# Altium footprint library HT3.96.PcbLib: 56 footprints (part 4 of 4)
Each footprint in its own frame and in the unit in brackets; x right, y up, seen from the top. Pads: shape width x height; smd on the part's side, far side on the other; paste and mask are expansions set on the pad; w line width, h text height; cw(c..) or ccw(c..) is an arc to the next point about the centre after c.
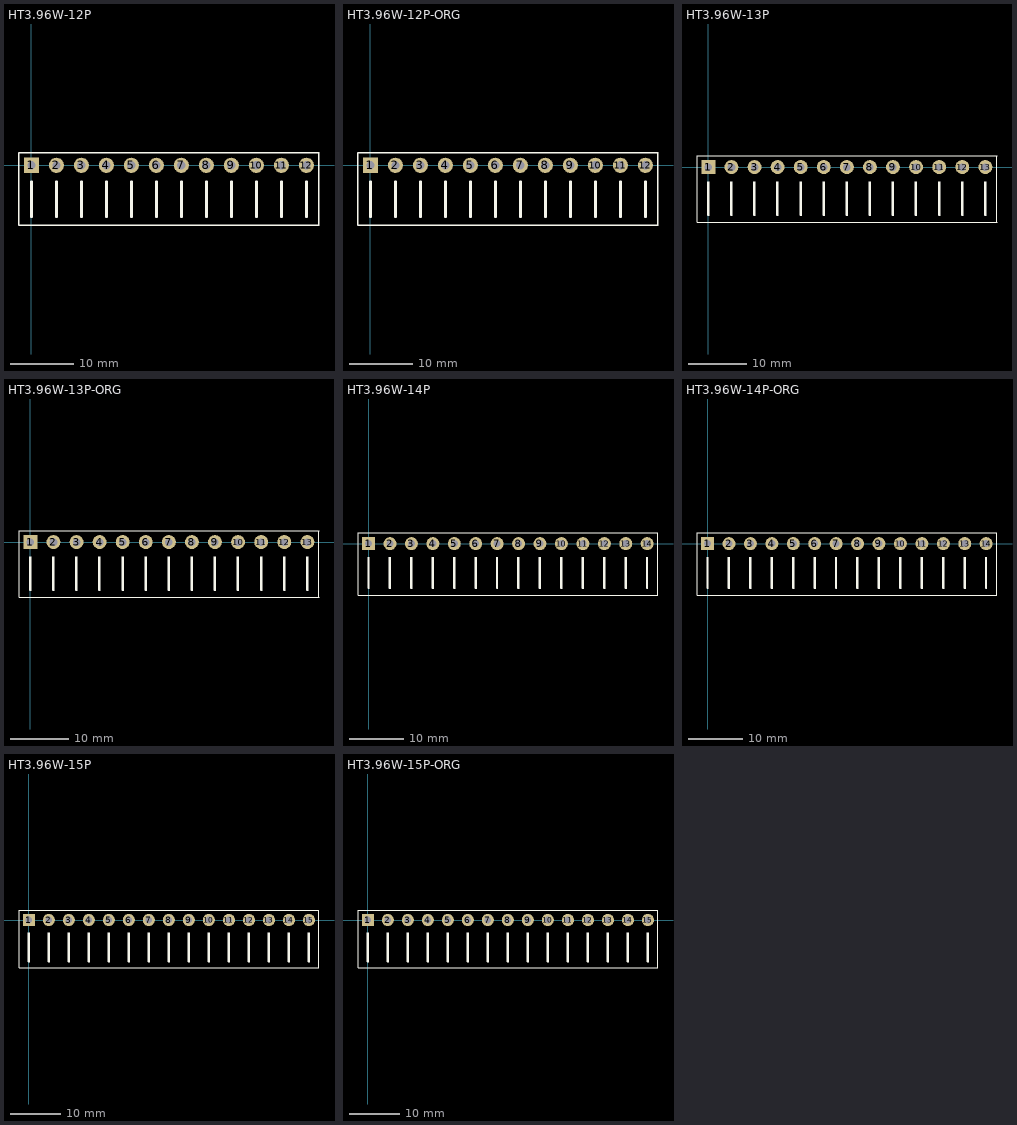
[diagram p3: the footprints below, top view; thin cyan lines are the x and y axes]

## HT3.96W-12P [mm]
pads (12):
  rect 2.4x2.4 hole 1.3: 1(0,0)
  round 2.4 hole 1.3: 2(3.96,0) 3(7.92,0) 4(11.88,0) 5(15.84,0) 6(19.8,0) 7(23.76,0) 8(27.72,0) 9(31.68,0) 10(35.64,0) 11(39.62,0) 12(43.58,0)
Top Overlay:
  lines w0.203: 0.02,-8.255 0.02,-2.54 ; 3.98,-8.255 3.98,-2.54 ; 7.94,-8.255 7.94,-2.54 ; 11.9,-8.255 11.9,-2.54 ; 15.86,-8.255 15.86,-2.54 ; 19.82,-8.255 19.82,-2.54 ; 23.78,-8.255 23.78,-2.54 ; 27.74,-8.255 27.74,-2.54 ; 31.7,-8.255 31.7,-2.54 ; 35.66,-8.255 35.66,-2.54 ; 37.64,-9.5 33.68,-9.5 29.72,-9.5 25.76,-9.5 21.8,-9.5 17.84,-9.5 13.88,-9.5 9.92,-9.5 5.96,-9.5 2,-9.5 -1.96,-9.5 -1.96,1.98 2,1.98 5.96,1.98 9.92,1.98 13.88,1.98 17.84,1.98 21.8,1.98 25.76,1.98 29.72,1.98 33.68,1.98 37.64,1.98 ; 37.66,-9.5 41.62,-9.5 45.58,-9.5 45.58,1.98 41.62,1.98 37.66,1.98 ; 39.64,-8.255 39.64,-2.54 ; 43.6,-8.255 43.6,-2.54 ; -0.107,-8.255 0.147,-8.255 0.147,-2.54 -0.107,-2.54 -0.107,-8.255 ; 3.853,-8.255 3.853,-2.54 4.107,-2.54 4.107,-8.255 3.853,-8.255 ; 7.813,-8.255 7.813,-2.54 8.067,-2.54 8.067,-8.255 7.813,-8.255 ; 11.773,-8.255 11.773,-2.54 12.027,-2.54 12.027,-8.255 11.773,-8.255 ; 15.733,-8.255 15.733,-2.54 15.987,-2.54 15.987,-8.255 15.733,-8.255 ; 19.693,-8.255 19.693,-2.54 19.947,-2.54 19.947,-8.255 19.693,-8.255 ; 23.653,-8.255 23.653,-2.54 23.907,-2.54 23.907,-8.255 23.653,-8.255 ; 27.613,-8.255 27.613,-2.54 27.867,-2.54 27.867,-8.255 27.613,-8.255 ; 31.573,-8.255 31.573,-2.54 31.827,-2.54 31.827,-8.255 31.573,-8.255 ; 35.533,-8.255 35.787,-8.255 35.787,-2.54 35.533,-2.54 35.533,-8.255 ; 39.513,-8.255 39.513,-2.54 39.767,-2.54 39.767,-8.255 39.513,-8.255 ; 43.473,-8.255 43.727,-8.255 43.727,-2.54 43.473,-2.54 43.473,-8.255
3D body "HT3.96-WI.STEP": height 7.45, standoff -3.2, extent 37.568,-9.492 41.568,0.508
3D body "HT3.96-WI.STEP": height 7.45, standoff -3.2, extent 33.608,-9.492 37.608,0.508
3D body "HT3.96-WI.STEP": height 7.45, standoff -3.2, extent 41.528,-9.492 45.528,0.508
3D body "HT3.96-WI.STEP": height 7.45, standoff -3.2, extent 25.688,-9.492 29.688,0.508
3D body "HT3.96-WI.STEP": height 7.45, standoff -3.2, extent 21.728,-9.492 25.728,0.508
3D body "HT3.96-WI.STEP": height 7.45, standoff -3.2, extent 29.648,-9.492 33.648,0.508
3D body "HT3.96-WI.STEP": height 7.45, standoff -3.2, extent 13.808,-9.492 17.808,0.508
3D body "HT3.96-WI.STEP": height 7.45, standoff -3.2, extent 9.848,-9.492 13.848,0.508
3D body "HT3.96-WI.STEP": height 7.45, standoff -3.2, extent 17.768,-9.492 21.768,0.508
3D body "HT3.96-WI.STEP": height 7.45, standoff -3.2, extent 1.928,-9.492 5.928,0.508
3D body "HT3.96-WI.STEP": height 7.45, standoff -3.2, extent -2.032,-9.492 1.968,0.508
3D body "HT3.96-WI.STEP": height 7.45, standoff -3.2, extent 5.888,-9.492 9.888,0.508

## HT3.96W-12P-ORG [mm]
pads (12):
  rect 2.4x2.4 hole 1.3: 1(0,0)
  round 2.4 hole 1.3: 2(3.96,0) 3(7.92,0) 4(11.88,0) 5(15.84,0) 6(19.8,0) 7(23.76,0) 8(27.72,0) 9(31.68,0) 10(35.64,0) 11(39.62,0) 12(43.58,0)
Top Overlay:
  lines w0.203: 0.02,-8.255 0.02,-2.54 ; 3.98,-8.255 3.98,-2.54 ; 7.94,-8.255 7.94,-2.54 ; 11.9,-8.255 11.9,-2.54 ; 15.86,-8.255 15.86,-2.54 ; 19.82,-8.255 19.82,-2.54 ; 23.78,-8.255 23.78,-2.54 ; 27.74,-8.255 27.74,-2.54 ; 31.7,-8.255 31.7,-2.54 ; 35.66,-8.255 35.66,-2.54 ; 37.64,-9.5 33.68,-9.5 29.72,-9.5 25.76,-9.5 21.8,-9.5 17.84,-9.5 13.88,-9.5 9.92,-9.5 5.96,-9.5 2,-9.5 -1.96,-9.5 -1.96,1.98 2,1.98 5.96,1.98 9.92,1.98 13.88,1.98 17.84,1.98 21.8,1.98 25.76,1.98 29.72,1.98 33.68,1.98 37.64,1.98 ; 37.66,-9.5 41.62,-9.5 45.58,-9.5 45.58,1.98 41.62,1.98 37.66,1.98 ; 39.64,-8.255 39.64,-2.54 ; 43.6,-8.255 43.6,-2.54 ; -0.107,-8.255 0.147,-8.255 0.147,-2.54 -0.107,-2.54 -0.107,-8.255 ; 3.853,-8.255 3.853,-2.54 4.107,-2.54 4.107,-8.255 3.853,-8.255 ; 7.813,-8.255 7.813,-2.54 8.067,-2.54 8.067,-8.255 7.813,-8.255 ; 11.773,-8.255 11.773,-2.54 12.027,-2.54 12.027,-8.255 11.773,-8.255 ; 15.733,-8.255 15.733,-2.54 15.987,-2.54 15.987,-8.255 15.733,-8.255 ; 19.693,-8.255 19.693,-2.54 19.947,-2.54 19.947,-8.255 19.693,-8.255 ; 23.653,-8.255 23.653,-2.54 23.907,-2.54 23.907,-8.255 23.653,-8.255 ; 27.613,-8.255 27.613,-2.54 27.867,-2.54 27.867,-8.255 27.613,-8.255 ; 31.573,-8.255 31.573,-2.54 31.827,-2.54 31.827,-8.255 31.573,-8.255 ; 35.533,-8.255 35.787,-8.255 35.787,-2.54 35.533,-2.54 35.533,-8.255 ; 39.513,-8.255 39.513,-2.54 39.767,-2.54 39.767,-8.255 39.513,-8.255 ; 43.473,-8.255 43.727,-8.255 43.727,-2.54 43.473,-2.54 43.473,-8.255
3D body "HT3.96-WI-ORG.STEP": height 7.45, standoff -3.2, extent 33.642,-9.572 37.642,0.428
3D body "HT3.96-WI-ORG.STEP": height 7.45, standoff -3.2, extent 37.602,-9.572 41.602,0.428
3D body "HT3.96-WI-ORG.STEP": height 7.45, standoff -3.2, extent 41.562,-9.572 45.562,0.428
3D body "HT3.96-WI-ORG.STEP": height 7.45, standoff -3.2, extent 21.762,-9.572 25.762,0.428
3D body "HT3.96-WI-ORG.STEP": height 7.45, standoff -3.2, extent 25.722,-9.572 29.722,0.428
3D body "HT3.96-WI-ORG.STEP": height 7.45, standoff -3.2, extent 29.682,-9.572 33.682,0.428
3D body "HT3.96-WI-ORG.STEP": height 7.45, standoff -3.2, extent 9.882,-9.572 13.882,0.428
3D body "HT3.96-WI-ORG.STEP": height 7.45, standoff -3.2, extent 13.842,-9.572 17.842,0.428
3D body "HT3.96-WI-ORG.STEP": height 7.45, standoff -3.2, extent 17.802,-9.572 21.802,0.428
3D body "HT3.96-WI-ORG.STEP": height 7.45, standoff -3.2, extent 5.922,-9.572 9.922,0.428
3D body "HT3.96-WI-ORG.STEP": height 7.45, standoff -3.2, extent 1.962,-9.572 5.962,0.428
3D body "HT3.96-WI-ORG.STEP": height 7.45, standoff -3.2, extent -1.998,-9.572 2.002,0.428

## HT3.96W-13P [mm]
pads (13):
  rect 2.4x2.4 hole 1.3: 1(0,0)
  round 2.4 hole 1.3: 2(3.96,0) 3(7.92,0) 4(11.88,0) 5(15.84,0) 6(19.8,0) 7(23.76,0) 8(27.72,0) 9(31.68,0) 10(35.64,0) 11(39.62,0) 12(43.58,0) 13(47.54,0)
Top Overlay:
  lines w0.203: 0.02,-8.255 0.02,-2.54 ; 3.98,-8.255 3.98,-2.54 ; 7.94,-8.255 7.94,-2.54 ; 11.9,-8.255 11.9,-2.54 ; 15.86,-8.255 15.86,-2.54 ; 19.82,-8.255 19.82,-2.54 ; 23.78,-8.255 23.78,-2.54 ; 27.74,-8.255 27.74,-2.54 ; 31.7,-8.255 31.7,-2.54 ; 35.66,-8.255 35.66,-2.54 ; 37.64,-9.5 33.68,-9.5 29.72,-9.5 25.76,-9.5 21.8,-9.5 17.84,-9.5 13.88,-9.5 9.92,-9.5 5.96,-9.5 2,-9.5 -1.96,-9.5 -1.96,1.98 2,1.98 5.96,1.98 9.92,1.98 13.88,1.98 17.84,1.98 21.8,1.98 25.76,1.98 29.72,1.98 33.68,1.98 37.64,1.98 ; 37.66,-9.5 41.62,-9.5 45.58,-9.5 49.54,-9.5 49.54,1.98 45.58,1.98 41.62,1.98 37.66,1.98 ; 39.64,-8.255 39.64,-2.54 ; 43.6,-8.255 43.6,-2.54 ; 47.56,-8.255 47.56,-2.54 ; -0.107,-8.255 -0.107,-2.54 0.147,-2.54 0.147,-8.255 -0.107,-8.255 ; 3.853,-8.255 4.107,-8.255 4.107,-2.54 3.853,-2.54 3.853,-8.255 ; 7.813,-8.255 8.067,-8.255 8.067,-2.54 7.813,-2.54 7.813,-8.255 ; 11.773,-8.255 12.027,-8.255 12.027,-2.54 11.773,-2.54 11.773,-8.255 ; 15.733,-8.255 15.987,-8.255 15.987,-2.54 15.733,-2.54 15.733,-8.255 ; 19.693,-8.255 19.947,-8.255 19.947,-2.54 19.693,-2.54 19.693,-8.255 ; 23.653,-8.255 23.907,-8.255 23.907,-2.54 23.653,-2.54 23.653,-8.255 ; 27.613,-8.255 27.867,-8.255 27.867,-2.54 27.613,-2.54 27.613,-8.255 ; 31.573,-8.255 31.827,-8.255 31.827,-2.54 31.573,-2.54 31.573,-8.255 ; 35.533,-8.255 35.533,-2.54 35.787,-2.54 35.787,-8.255 35.533,-8.255 ; 39.513,-8.255 39.767,-8.255 39.767,-2.54 39.513,-2.54 39.513,-8.255 ; 43.473,-8.255 43.473,-2.54 43.727,-2.54 43.727,-8.255 43.473,-8.255 ; 47.433,-8.255 47.687,-8.255 47.687,-2.54 47.433,-2.54 47.433,-8.255
3D body "HT3.96-WI.STEP": height 7.45, standoff -3.2, extent 45.508,-9.492 49.508,0.508
3D body "HT3.96-WI.STEP": height 7.45, standoff -3.2, extent 37.568,-9.492 41.568,0.508
3D body "HT3.96-WI.STEP": height 7.45, standoff -3.2, extent 33.608,-9.492 37.608,0.508
3D body "HT3.96-WI.STEP": height 7.45, standoff -3.2, extent 41.528,-9.492 45.528,0.508
3D body "HT3.96-WI.STEP": height 7.45, standoff -3.2, extent 25.688,-9.492 29.688,0.508
3D body "HT3.96-WI.STEP": height 7.45, standoff -3.2, extent 21.728,-9.492 25.728,0.508
3D body "HT3.96-WI.STEP": height 7.45, standoff -3.2, extent 29.648,-9.492 33.648,0.508
3D body "HT3.96-WI.STEP": height 7.45, standoff -3.2, extent 13.808,-9.492 17.808,0.508
3D body "HT3.96-WI.STEP": height 7.45, standoff -3.2, extent 9.848,-9.492 13.848,0.508
3D body "HT3.96-WI.STEP": height 7.45, standoff -3.2, extent 17.768,-9.492 21.768,0.508
3D body "HT3.96-WI.STEP": height 7.45, standoff -3.2, extent 1.928,-9.492 5.928,0.508
3D body "HT3.96-WI.STEP": height 7.45, standoff -3.2, extent -2.032,-9.492 1.968,0.508
3D body "HT3.96-WI.STEP": height 7.45, standoff -3.2, extent 5.888,-9.492 9.888,0.508

## HT3.96W-13P-ORG [mm] "HT3.96卧插端子"
pads (13):
  rect 2.4x2.4 hole 1.3: 1(0,0)
  round 2.4 hole 1.3: 2(3.96,0) 3(7.92,0) 4(11.88,0) 5(15.84,0) 6(19.8,0) 7(23.76,0) 8(27.72,0) 9(31.68,0) 10(35.64,0) 11(39.62,0) 12(43.58,0) 13(47.54,0)
Top Overlay:
  lines w0.203: 0.02,-8.255 0.02,-2.54 ; 3.98,-8.255 3.98,-2.54 ; 7.94,-8.255 7.94,-2.54 ; 11.9,-8.255 11.9,-2.54 ; 15.86,-8.255 15.86,-2.54 ; 19.82,-8.255 19.82,-2.54 ; 23.78,-8.255 23.78,-2.54 ; 27.74,-8.255 27.74,-2.54 ; 31.7,-8.255 31.7,-2.54 ; 35.66,-8.255 35.66,-2.54 ; 37.64,-9.5 33.68,-9.5 29.72,-9.5 25.76,-9.5 21.8,-9.5 17.84,-9.5 13.88,-9.5 9.92,-9.5 5.96,-9.5 2,-9.5 -1.96,-9.5 -1.96,1.98 2,1.98 5.96,1.98 9.92,1.98 13.88,1.98 17.84,1.98 21.8,1.98 25.76,1.98 29.72,1.98 33.68,1.98 37.64,1.98 ; 37.66,-9.5 41.62,-9.5 45.58,-9.5 49.54,-9.5 49.54,1.98 45.58,1.98 41.62,1.98 37.66,1.98 ; 39.64,-8.255 39.64,-2.54 ; 43.6,-8.255 43.6,-2.54 ; 47.56,-8.255 47.56,-2.54 ; -0.107,-8.255 0.147,-8.255 0.147,-2.54 -0.107,-2.54 -0.107,-8.255 ; 3.853,-8.255 3.853,-2.54 4.107,-2.54 4.107,-8.255 3.853,-8.255 ; 7.813,-8.255 7.813,-2.54 8.067,-2.54 8.067,-8.255 7.813,-8.255 ; 11.773,-8.255 11.773,-2.54 12.027,-2.54 12.027,-8.255 11.773,-8.255 ; 15.733,-8.255 15.733,-2.54 15.987,-2.54 15.987,-8.255 15.733,-8.255 ; 19.693,-8.255 19.693,-2.54 19.947,-2.54 19.947,-8.255 19.693,-8.255 ; 23.653,-8.255 23.653,-2.54 23.907,-2.54 23.907,-8.255 23.653,-8.255 ; 27.613,-8.255 27.613,-2.54 27.867,-2.54 27.867,-8.255 27.613,-8.255 ; 31.573,-8.255 31.573,-2.54 31.827,-2.54 31.827,-8.255 31.573,-8.255 ; 35.533,-8.255 35.787,-8.255 35.787,-2.54 35.533,-2.54 35.533,-8.255 ; 39.513,-8.255 39.513,-2.54 39.767,-2.54 39.767,-8.255 39.513,-8.255 ; 43.473,-8.255 43.727,-8.255 43.727,-2.54 43.473,-2.54 43.473,-8.255 ; 47.433,-8.255 47.433,-2.54 47.687,-2.54 47.687,-8.255 47.433,-8.255
3D body "HT3.96-WI-ORG.STEP": height 7.45, standoff -3.2, extent 45.542,-9.572 49.542,0.428
3D body "HT3.96-WI-ORG.STEP": height 7.45, standoff -3.2, extent 33.642,-9.572 37.642,0.428
3D body "HT3.96-WI-ORG.STEP": height 7.45, standoff -3.2, extent 37.602,-9.572 41.602,0.428
3D body "HT3.96-WI-ORG.STEP": height 7.45, standoff -3.2, extent 41.562,-9.572 45.562,0.428
3D body "HT3.96-WI-ORG.STEP": height 7.45, standoff -3.2, extent 21.762,-9.572 25.762,0.428
3D body "HT3.96-WI-ORG.STEP": height 7.45, standoff -3.2, extent 25.722,-9.572 29.722,0.428
3D body "HT3.96-WI-ORG.STEP": height 7.45, standoff -3.2, extent 29.682,-9.572 33.682,0.428
3D body "HT3.96-WI-ORG.STEP": height 7.45, standoff -3.2, extent 9.882,-9.572 13.882,0.428
3D body "HT3.96-WI-ORG.STEP": height 7.45, standoff -3.2, extent 13.842,-9.572 17.842,0.428
3D body "HT3.96-WI-ORG.STEP": height 7.45, standoff -3.2, extent 17.802,-9.572 21.802,0.428
3D body "HT3.96-WI-ORG.STEP": height 7.45, standoff -3.2, extent 5.922,-9.572 9.922,0.428
3D body "HT3.96-WI-ORG.STEP": height 7.45, standoff -3.2, extent 1.962,-9.572 5.962,0.428
3D body "HT3.96-WI-ORG.STEP": height 7.45, standoff -3.2, extent -1.998,-9.572 2.002,0.428

## HT3.96W-14P [mm]
pads (14):
  rect 2.4x2.4 hole 1.3: 1(0,0)
  round 2.4 hole 1.3: 2(3.96,0) 3(7.92,0) 4(11.88,0) 5(15.84,0) 6(19.8,0) 7(23.76,0) 8(27.72,0) 9(31.68,0) 10(35.64,0) 11(39.62,0) 12(43.58,0) 13(47.54,0) 14(51.5,0)
Top Overlay:
  lines w0.203: 0.02,-8.255 0.02,-2.54 ; 3.98,-8.255 3.98,-2.54 ; 7.94,-8.255 7.94,-2.54 ; 11.9,-8.255 11.9,-2.54 ; 15.86,-8.255 15.86,-2.54 ; 19.82,-8.255 19.82,-2.54 ; 23.78,-8.255 23.78,-2.54 ; 27.74,-8.255 27.74,-2.54 ; 31.7,-8.255 31.7,-2.54 ; 35.66,-8.255 35.66,-2.54 ; 37.64,-9.5 33.68,-9.5 29.72,-9.5 25.76,-9.5 21.8,-9.5 17.84,-9.5 13.88,-9.5 9.92,-9.5 5.96,-9.5 2,-9.5 -1.96,-9.5 -1.96,1.98 2,1.98 5.96,1.98 9.92,1.98 13.88,1.98 17.84,1.98 21.8,1.98 25.76,1.98 29.72,1.98 33.68,1.98 37.64,1.98 ; 37.66,-9.5 41.62,-9.5 45.58,-9.5 49.54,-9.5 53.5,-9.5 53.5,1.98 49.54,1.98 45.58,1.98 41.62,1.98 37.66,1.98 ; 39.64,-8.255 39.64,-2.54 ; 43.6,-8.255 43.6,-2.54 ; 47.56,-8.255 47.56,-2.54 ; 51.52,-8.255 51.52,-2.54 ; -0.107,-8.255 -0.107,-2.54 0.147,-2.54 0.147,-8.255 -0.107,-8.255 ; 3.853,-8.255 4.107,-8.255 4.107,-2.54 3.853,-2.54 3.853,-8.255 ; 7.813,-8.255 8.067,-8.255 8.067,-2.54 7.813,-2.54 7.813,-8.255 ; 11.773,-8.255 12.027,-8.255 12.027,-2.54 11.773,-2.54 11.773,-8.255 ; 15.733,-8.255 15.987,-8.255 15.987,-2.54 15.733,-2.54 15.733,-8.255 ; 19.693,-8.255 19.947,-8.255 19.947,-2.54 19.693,-2.54 19.693,-8.255 ; 23.653,-8.255 23.907,-8.255 23.907,-2.54 23.653,-2.54 23.653,-8.255 ; 27.613,-8.255 27.867,-8.255 27.867,-2.54 27.613,-2.54 27.613,-8.255 ; 31.573,-8.255 31.827,-8.255 31.827,-2.54 31.573,-2.54 31.573,-8.255 ; 35.533,-8.255 35.533,-2.54 35.787,-2.54 35.787,-8.255 35.533,-8.255 ; 39.513,-8.255 39.767,-8.255 39.767,-2.54 39.513,-2.54 39.513,-8.255 ; 43.473,-8.255 43.473,-2.54 43.727,-2.54 43.727,-8.255 43.473,-8.255 ; 47.433,-8.255 47.687,-8.255 47.687,-2.54 47.433,-2.54 47.433,-8.255 ; 51.393,-8.255 51.393,-2.54 51.647,-2.54 51.647,-8.255 51.393,-8.255
3D body "HT3.96-WI.STEP": height 7.45, standoff -3.2, extent 49.468,-9.492 53.468,0.508
3D body "HT3.96-WI.STEP": height 7.45, standoff -3.2, extent 45.508,-9.492 49.508,0.508
3D body "HT3.96-WI.STEP": height 7.45, standoff -3.2, extent 37.568,-9.492 41.568,0.508
3D body "HT3.96-WI.STEP": height 7.45, standoff -3.2, extent 33.608,-9.492 37.608,0.508
3D body "HT3.96-WI.STEP": height 7.45, standoff -3.2, extent 41.528,-9.492 45.528,0.508
3D body "HT3.96-WI.STEP": height 7.45, standoff -3.2, extent 25.688,-9.492 29.688,0.508
3D body "HT3.96-WI.STEP": height 7.45, standoff -3.2, extent 21.728,-9.492 25.728,0.508
3D body "HT3.96-WI.STEP": height 7.45, standoff -3.2, extent 29.648,-9.492 33.648,0.508
3D body "HT3.96-WI.STEP": height 7.45, standoff -3.2, extent 13.808,-9.492 17.808,0.508
3D body "HT3.96-WI.STEP": height 7.45, standoff -3.2, extent 9.848,-9.492 13.848,0.508
3D body "HT3.96-WI.STEP": height 7.45, standoff -3.2, extent 17.768,-9.492 21.768,0.508
3D body "HT3.96-WI.STEP": height 7.45, standoff -3.2, extent 1.928,-9.492 5.928,0.508
3D body "HT3.96-WI.STEP": height 7.45, standoff -3.2, extent -2.032,-9.492 1.968,0.508
3D body "HT3.96-WI.STEP": height 7.45, standoff -3.2, extent 5.888,-9.492 9.888,0.508

## HT3.96W-14P-ORG [mm]
pads (14):
  rect 2.4x2.4 hole 1.3: 1(0,0)
  round 2.4 hole 1.3: 2(3.96,0) 3(7.92,0) 4(11.88,0) 5(15.84,0) 6(19.8,0) 7(23.76,0) 8(27.72,0) 9(31.68,0) 10(35.64,0) 11(39.62,0) 12(43.58,0) 13(47.54,0) 14(51.5,0)
Top Overlay:
  lines w0.203: 0.02,-8.255 0.02,-2.54 ; 3.98,-8.255 3.98,-2.54 ; 7.94,-8.255 7.94,-2.54 ; 11.9,-8.255 11.9,-2.54 ; 15.86,-8.255 15.86,-2.54 ; 19.82,-8.255 19.82,-2.54 ; 23.78,-8.255 23.78,-2.54 ; 27.74,-8.255 27.74,-2.54 ; 31.7,-8.255 31.7,-2.54 ; 35.66,-8.255 35.66,-2.54 ; 37.64,-9.5 33.68,-9.5 29.72,-9.5 25.76,-9.5 21.8,-9.5 17.84,-9.5 13.88,-9.5 9.92,-9.5 5.96,-9.5 2,-9.5 -1.96,-9.5 -1.96,1.98 2,1.98 5.96,1.98 9.92,1.98 13.88,1.98 17.84,1.98 21.8,1.98 25.76,1.98 29.72,1.98 33.68,1.98 37.64,1.98 ; 37.66,-9.5 41.62,-9.5 45.58,-9.5 49.54,-9.5 53.5,-9.5 53.5,1.98 49.54,1.98 45.58,1.98 41.62,1.98 37.66,1.98 ; 39.64,-8.255 39.64,-2.54 ; 43.6,-8.255 43.6,-2.54 ; 47.56,-8.255 47.56,-2.54 ; 51.52,-8.255 51.52,-2.54 ; -0.107,-8.255 0.147,-8.255 0.147,-2.54 -0.107,-2.54 -0.107,-8.255 ; 3.853,-8.255 3.853,-2.54 4.107,-2.54 4.107,-8.255 3.853,-8.255 ; 7.813,-8.255 7.813,-2.54 8.067,-2.54 8.067,-8.255 7.813,-8.255 ; 11.773,-8.255 11.773,-2.54 12.027,-2.54 12.027,-8.255 11.773,-8.255 ; 15.733,-8.255 15.733,-2.54 15.987,-2.54 15.987,-8.255 15.733,-8.255 ; 19.693,-8.255 19.693,-2.54 19.947,-2.54 19.947,-8.255 19.693,-8.255 ; 23.653,-8.255 23.653,-2.54 23.907,-2.54 23.907,-8.255 23.653,-8.255 ; 27.613,-8.255 27.613,-2.54 27.867,-2.54 27.867,-8.255 27.613,-8.255 ; 31.573,-8.255 31.573,-2.54 31.827,-2.54 31.827,-8.255 31.573,-8.255 ; 35.533,-8.255 35.787,-8.255 35.787,-2.54 35.533,-2.54 35.533,-8.255 ; 39.513,-8.255 39.513,-2.54 39.767,-2.54 39.767,-8.255 39.513,-8.255 ; 43.473,-8.255 43.727,-8.255 43.727,-2.54 43.473,-2.54 43.473,-8.255 ; 47.433,-8.255 47.433,-2.54 47.687,-2.54 47.687,-8.255 47.433,-8.255 ; 51.393,-8.255 51.647,-8.255 51.647,-2.54 51.393,-2.54 51.393,-8.255
3D body "HT3.96-WI-ORG.STEP": height 7.45, standoff -3.2, extent 45.542,-9.572 49.542,0.428
3D body "HT3.96-WI-ORG.STEP": height 7.45, standoff -3.2, extent 49.502,-9.572 53.502,0.428
3D body "HT3.96-WI-ORG.STEP": height 7.45, standoff -3.2, extent 33.642,-9.572 37.642,0.428
3D body "HT3.96-WI-ORG.STEP": height 7.45, standoff -3.2, extent 37.602,-9.572 41.602,0.428
3D body "HT3.96-WI-ORG.STEP": height 7.45, standoff -3.2, extent 41.562,-9.572 45.562,0.428
3D body "HT3.96-WI-ORG.STEP": height 7.45, standoff -3.2, extent 21.762,-9.572 25.762,0.428
3D body "HT3.96-WI-ORG.STEP": height 7.45, standoff -3.2, extent 25.722,-9.572 29.722,0.428
3D body "HT3.96-WI-ORG.STEP": height 7.45, standoff -3.2, extent 29.682,-9.572 33.682,0.428
3D body "HT3.96-WI-ORG.STEP": height 7.45, standoff -3.2, extent 9.882,-9.572 13.882,0.428
3D body "HT3.96-WI-ORG.STEP": height 7.45, standoff -3.2, extent 13.842,-9.572 17.842,0.428
3D body "HT3.96-WI-ORG.STEP": height 7.45, standoff -3.2, extent 17.802,-9.572 21.802,0.428
3D body "HT3.96-WI-ORG.STEP": height 7.45, standoff -3.2, extent 5.922,-9.572 9.922,0.428
3D body "HT3.96-WI-ORG.STEP": height 7.45, standoff -3.2, extent 1.962,-9.572 5.962,0.428
3D body "HT3.96-WI-ORG.STEP": height 7.45, standoff -3.2, extent -1.998,-9.572 2.002,0.428

## HT3.96W-15P [mm]
pads (15):
  rect 2.4x2.4 hole 1.3: 1(0,0)
  round 2.4 hole 1.3: 2(3.96,0) 3(7.92,0) 4(11.88,0) 5(15.84,0) 6(19.8,0) 7(23.76,0) 8(27.72,0) 9(31.68,0) 10(35.64,0) 11(39.62,0) 12(43.58,0) 13(47.54,0) 14(51.5,0) 15(55.46,0)
Top Overlay:
  lines w0.203: 0.02,-8.255 0.02,-2.54 ; 3.98,-8.255 3.98,-2.54 ; 7.94,-8.255 7.94,-2.54 ; 11.9,-8.255 11.9,-2.54 ; 15.86,-8.255 15.86,-2.54 ; 19.82,-8.255 19.82,-2.54 ; 23.78,-8.255 23.78,-2.54 ; 27.74,-8.255 27.74,-2.54 ; 31.7,-8.255 31.7,-2.54 ; 35.66,-8.255 35.66,-2.54 ; 37.64,-9.5 33.68,-9.5 29.72,-9.5 25.76,-9.5 21.8,-9.5 17.84,-9.5 13.88,-9.5 9.92,-9.5 5.96,-9.5 2,-9.5 -1.96,-9.5 -1.96,1.98 2,1.98 5.96,1.98 9.92,1.98 13.88,1.98 17.84,1.98 21.8,1.98 25.76,1.98 29.72,1.98 33.68,1.98 37.64,1.98 ; 37.66,-9.5 41.62,-9.5 45.58,-9.5 49.54,-9.5 53.5,-9.5 57.46,-9.5 57.46,1.98 53.5,1.98 49.54,1.98 45.58,1.98 41.62,1.98 37.66,1.98 ; 39.64,-8.255 39.64,-2.54 ; 43.6,-8.255 43.6,-2.54 ; 47.56,-8.255 47.56,-2.54 ; 51.52,-8.255 51.52,-2.54 ; 55.48,-8.255 55.48,-2.54 ; -0.107,-8.255 -0.107,-2.54 0.147,-2.54 0.147,-8.255 -0.107,-8.255 ; 3.853,-8.255 4.107,-8.255 4.107,-2.54 3.853,-2.54 3.853,-8.255 ; 7.813,-8.255 8.067,-8.255 8.067,-2.54 7.813,-2.54 7.813,-8.255 ; 11.773,-8.255 12.027,-8.255 12.027,-2.54 11.773,-2.54 11.773,-8.255 ; 15.733,-8.255 15.987,-8.255 15.987,-2.54 15.733,-2.54 15.733,-8.255 ; 19.693,-8.255 19.947,-8.255 19.947,-2.54 19.693,-2.54 19.693,-8.255 ; 23.653,-8.255 23.907,-8.255 23.907,-2.54 23.653,-2.54 23.653,-8.255 ; 27.613,-8.255 27.867,-8.255 27.867,-2.54 27.613,-2.54 27.613,-8.255 ; 31.573,-8.255 31.827,-8.255 31.827,-2.54 31.573,-2.54 31.573,-8.255 ; 35.533,-8.255 35.533,-2.54 35.787,-2.54 35.787,-8.255 35.533,-8.255 ; 39.513,-8.255 39.767,-8.255 39.767,-2.54 39.513,-2.54 39.513,-8.255 ; 43.473,-8.255 43.473,-2.54 43.727,-2.54 43.727,-8.255 43.473,-8.255 ; 47.433,-8.255 47.687,-8.255 47.687,-2.54 47.433,-2.54 47.433,-8.255 ; 51.393,-8.255 51.393,-2.54 51.647,-2.54 51.647,-8.255 51.393,-8.255 ; 55.353,-8.255 55.607,-8.255 55.607,-2.54 55.353,-2.54 55.353,-8.255
3D body "HT3.96-WI.STEP": height 7.45, standoff -3.2, extent 5.888,-9.492 9.888,0.508
3D body "HT3.96-WI.STEP": height 7.45, standoff -3.2, extent -2.032,-9.492 1.968,0.508
3D body "HT3.96-WI.STEP": height 7.45, standoff -3.2, extent 1.928,-9.492 5.928,0.508
3D body "HT3.96-WI.STEP": height 7.45, standoff -3.2, extent 17.768,-9.492 21.768,0.508
3D body "HT3.96-WI.STEP": height 7.45, standoff -3.2, extent 9.848,-9.492 13.848,0.508
3D body "HT3.96-WI.STEP": height 7.45, standoff -3.2, extent 13.808,-9.492 17.808,0.508
3D body "HT3.96-WI.STEP": height 7.45, standoff -3.2, extent 29.648,-9.492 33.648,0.508
3D body "HT3.96-WI.STEP": height 7.45, standoff -3.2, extent 21.728,-9.492 25.728,0.508
3D body "HT3.96-WI.STEP": height 7.45, standoff -3.2, extent 25.688,-9.492 29.688,0.508
3D body "HT3.96-WI.STEP": height 7.45, standoff -3.2, extent 41.528,-9.492 45.528,0.508
3D body "HT3.96-WI.STEP": height 7.45, standoff -3.2, extent 33.608,-9.492 37.608,0.508
3D body "HT3.96-WI.STEP": height 7.45, standoff -3.2, extent 37.568,-9.492 41.568,0.508
3D body "HT3.96-WI.STEP": height 7.45, standoff -3.2, extent 53.428,-9.492 57.428,0.508
3D body "HT3.96-WI.STEP": height 7.45, standoff -3.2, extent 45.508,-9.492 49.508,0.508
3D body "HT3.96-WI.STEP": height 7.45, standoff -3.2, extent 49.468,-9.492 53.468,0.508

## HT3.96W-15P-ORG [mm]
pads (15):
  rect 2.4x2.4 hole 1.3: 1(0,0)
  round 2.4 hole 1.3: 2(3.96,0) 3(7.92,0) 4(11.88,0) 5(15.84,0) 6(19.8,0) 7(23.76,0) 8(27.72,0) 9(31.68,0) 10(35.64,0) 11(39.62,0) 12(43.58,0) 13(47.54,0) 14(51.5,0) 15(55.46,0)
Top Overlay:
  lines w0.203: 0.02,-8.255 0.02,-2.54 ; 3.98,-8.255 3.98,-2.54 ; 7.94,-8.255 7.94,-2.54 ; 11.9,-8.255 11.9,-2.54 ; 15.86,-8.255 15.86,-2.54 ; 19.82,-8.255 19.82,-2.54 ; 23.78,-8.255 23.78,-2.54 ; 27.74,-8.255 27.74,-2.54 ; 31.7,-8.255 31.7,-2.54 ; 35.66,-8.255 35.66,-2.54 ; 37.64,-9.5 33.68,-9.5 29.72,-9.5 25.76,-9.5 21.8,-9.5 17.84,-9.5 13.88,-9.5 9.92,-9.5 5.96,-9.5 2,-9.5 -1.96,-9.5 -1.96,1.98 2,1.98 5.96,1.98 9.92,1.98 13.88,1.98 17.84,1.98 21.8,1.98 25.76,1.98 29.72,1.98 33.68,1.98 37.64,1.98 ; 37.66,-9.5 41.62,-9.5 45.58,-9.5 49.54,-9.5 53.5,-9.5 57.46,-9.5 57.46,1.98 53.5,1.98 49.54,1.98 45.58,1.98 41.62,1.98 37.66,1.98 ; 39.64,-8.255 39.64,-2.54 ; 43.6,-8.255 43.6,-2.54 ; 47.56,-8.255 47.56,-2.54 ; 51.52,-8.255 51.52,-2.54 ; 55.48,-8.255 55.48,-2.54 ; -0.107,-8.255 0.147,-8.255 0.147,-2.54 -0.107,-2.54 -0.107,-8.255 ; 3.853,-8.255 3.853,-2.54 4.107,-2.54 4.107,-8.255 3.853,-8.255 ; 7.813,-8.255 7.813,-2.54 8.067,-2.54 8.067,-8.255 7.813,-8.255 ; 11.773,-8.255 11.773,-2.54 12.027,-2.54 12.027,-8.255 11.773,-8.255 ; 15.733,-8.255 15.733,-2.54 15.987,-2.54 15.987,-8.255 15.733,-8.255 ; 19.693,-8.255 19.693,-2.54 19.947,-2.54 19.947,-8.255 19.693,-8.255 ; 23.653,-8.255 23.653,-2.54 23.907,-2.54 23.907,-8.255 23.653,-8.255 ; 27.613,-8.255 27.613,-2.54 27.867,-2.54 27.867,-8.255 27.613,-8.255 ; 31.573,-8.255 31.573,-2.54 31.827,-2.54 31.827,-8.255 31.573,-8.255 ; 35.533,-8.255 35.787,-8.255 35.787,-2.54 35.533,-2.54 35.533,-8.255 ; 39.513,-8.255 39.513,-2.54 39.767,-2.54 39.767,-8.255 39.513,-8.255 ; 43.473,-8.255 43.727,-8.255 43.727,-2.54 43.473,-2.54 43.473,-8.255 ; 47.433,-8.255 47.433,-2.54 47.687,-2.54 47.687,-8.255 47.433,-8.255 ; 51.393,-8.255 51.647,-8.255 51.647,-2.54 51.393,-2.54 51.393,-8.255 ; 55.353,-8.255 55.353,-2.54 55.607,-2.54 55.607,-8.255 55.353,-8.255
3D body "HT3.96-WI-ORG.STEP": height 7.45, standoff -3.2, extent 45.542,-9.572 49.542,0.428
3D body "HT3.96-WI-ORG.STEP": height 7.45, standoff -3.2, extent 49.502,-9.572 53.502,0.428
3D body "HT3.96-WI-ORG.STEP": height 7.45, standoff -3.2, extent 53.462,-9.572 57.462,0.428
3D body "HT3.96-WI-ORG.STEP": height 7.45, standoff -3.2, extent 33.642,-9.572 37.642,0.428
3D body "HT3.96-WI-ORG.STEP": height 7.45, standoff -3.2, extent 37.602,-9.572 41.602,0.428
3D body "HT3.96-WI-ORG.STEP": height 7.45, standoff -3.2, extent 41.562,-9.572 45.562,0.428
3D body "HT3.96-WI-ORG.STEP": height 7.45, standoff -3.2, extent 21.762,-9.572 25.762,0.428
3D body "HT3.96-WI-ORG.STEP": height 7.45, standoff -3.2, extent 25.722,-9.572 29.722,0.428
3D body "HT3.96-WI-ORG.STEP": height 7.45, standoff -3.2, extent 29.682,-9.572 33.682,0.428
3D body "HT3.96-WI-ORG.STEP": height 7.45, standoff -3.2, extent 9.882,-9.572 13.882,0.428
3D body "HT3.96-WI-ORG.STEP": height 7.45, standoff -3.2, extent 13.842,-9.572 17.842,0.428
3D body "HT3.96-WI-ORG.STEP": height 7.45, standoff -3.2, extent 17.802,-9.572 21.802,0.428
3D body "HT3.96-WI-ORG.STEP": height 7.45, standoff -3.2, extent 5.922,-9.572 9.922,0.428
3D body "HT3.96-WI-ORG.STEP": height 7.45, standoff -3.2, extent 1.962,-9.572 5.962,0.428
3D body "HT3.96-WI-ORG.STEP": height 7.45, standoff -3.2, extent -1.998,-9.572 2.002,0.428